# Altium footprint library IPC-7355 CQFP_Sq_127P_Side_M.PcbLib: 7 footprints
Each footprint in its own frame and in the unit in brackets; x right, y up, seen from the top. Pads: shape width x height; smd on the part's side, far side on the other; paste and mask are expansions set on the pad; w line width, h text height; cw(c..) or ccw(c..) is an arc to the next point about the centre after c.
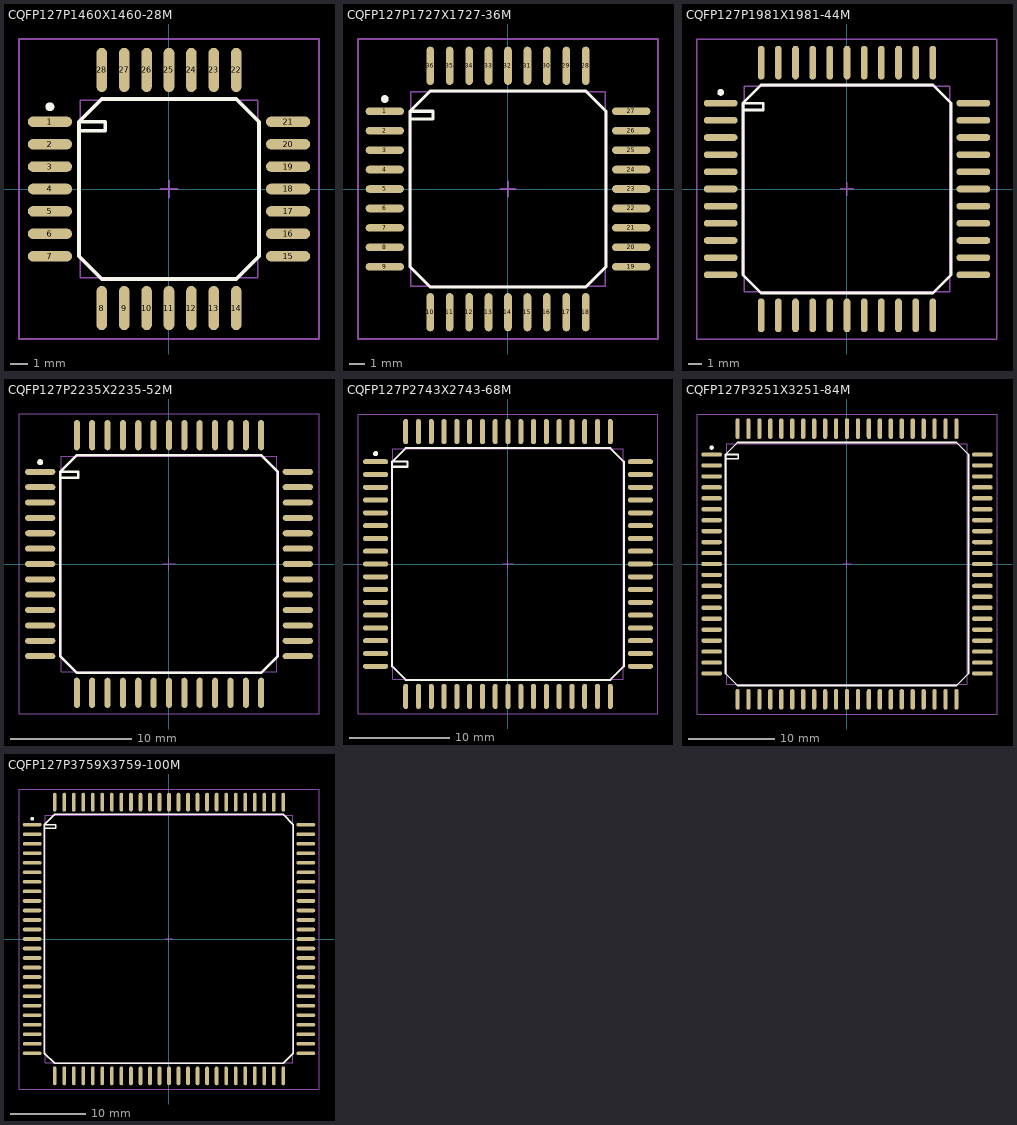
[diagram p0: the footprints below, top view; thin cyan lines are the x and y axes]

## CQFP127P1460X1460-28M [mm] "CQFP, 28-Leads, Body 10x10mm; Pitch 1.27mm, Gullwing Leadform, IPC Low Density"
height 2.3
pads (28):
  oval 2.5x0.6 smd: 1(-6.75,3.81) 2(-6.75,2.54) 3(-6.75,1.27) 4(-6.75,0) 5(-6.75,-1.27) 6(-6.75,-2.54) 7(-6.75,-3.81) 15(6.75,-3.81) 16(6.75,-2.54) 17(6.75,-1.27) 18(6.75,0) 19(6.75,1.27) 20(6.75,2.54) 21(6.75,3.81)
  oval 0.6x2.5 smd: 8(-3.81,-6.75) 9(-2.54,-6.75) 10(-1.27,-6.75) 11(0,-6.75) 12(1.27,-6.75) 13(2.54,-6.75) 14(3.81,-6.75) 22(3.81,6.75) 23(2.54,6.75) 24(1.27,6.75) 25(0,6.75) 26(-1.27,6.75) 27(-2.54,6.75) 28(-3.81,6.75)
Top Overlay:
  circle w0.25: c-6.75,4.66 r0.125
  lines w0.2: -5.1,3.31 -3.6,3.31 -3.6,3.81 -5.1,3.81 ; -5.1,3.81 -3.81,5.1 3.81,5.1 5.1,3.81 5.1,-3.81 3.81,-5.1 -3.81,-5.1 -5.1,-3.81 -5.1,3.81
Mechanical 13:
  lines w0.1: -5.025,-5.025 5.025,-5.025 5.025,5.025 -5.025,5.025 -5.025,-5.025
Mechanical 15:
  lines w0.1: -0.5,0 0.5,0 ; 0,-0.5 0,0.5 ; -8.5,-8.5 8.5,-8.5 8.5,8.5 -8.5,8.5 -8.5,-8.5
3D body: height 2.3, standoff 0, extent -5.025,-5.025 5.025,5.025

## CQFP127P1727X1727-36M [mm] "CQFP, 36-Leads, Body 12x12mm; Pitch 1.27mm, Gullwing Leadform, IPC Low Density"
height 5
pads (36):
  oval 2.5x0.5 smd: 1(-8.05,5.08) 2(-8.05,3.81) 3(-8.05,2.54) 4(-8.05,1.27) 5(-8.05,0) 6(-8.05,-1.27) 7(-8.05,-2.54) 8(-8.05,-3.81) 9(-8.05,-5.08) 19(8.05,-5.08) 20(8.05,-3.81) 21(8.05,-2.54) 22(8.05,-1.27) 23(8.05,0) 24(8.05,1.27) 25(8.05,2.54) 26(8.05,3.81) 27(8.05,5.08)
  oval 0.5x2.5 smd: 10(-5.08,-8.05) 11(-3.81,-8.05) 12(-2.54,-8.05) 13(-1.27,-8.05) 14(0,-8.05) 15(1.27,-8.05) 16(2.54,-8.05) 17(3.81,-8.05) 18(5.08,-8.05) 28(5.08,8.05) 29(3.81,8.05) 30(2.54,8.05) 31(1.27,8.05) 32(0,8.05) 33(-1.27,8.05) 34(-2.54,8.05) 35(-3.81,8.05) 36(-5.08,8.05)
Top Overlay:
  circle w0.25: c-8.05,5.88 r0.125
  lines w0.2: -6.4,4.58 -4.9,4.58 -4.9,5.08 -6.4,5.08 ; -6.4,5.08 -5.08,6.4 5.08,6.4 6.4,5.08 6.4,-5.08 5.08,-6.4 -5.08,-6.4 -6.4,-5.08 -6.4,5.08
Mechanical 13:
  lines w0.1: -6.35,-6.35 6.35,-6.35 6.35,6.35 -6.35,6.35 -6.35,-6.35
Mechanical 15:
  lines w0.1: -0.5,0 0.5,0 ; 0,-0.5 0,0.5 ; -9.8,-9.8 9.8,-9.8 9.8,9.8 -9.8,9.8 -9.8,-9.8
3D body: height 5, standoff 0, extent -6.35,-6.35 6.35,6.35

## CQFP127P1981X1981-44M [mm] "CQFP, 44-Leads, Body 15x15mm; Pitch 1.27mm, Gullwing Leadform, IPC Low Density"
height 5
pads (44):
  oval 2.5x0.5 smd: 1(-9.35,6.35) 2(-9.35,5.08) 3(-9.35,3.81) 4(-9.35,2.54) 5(-9.35,1.27) 6(-9.35,0) 7(-9.35,-1.27) 8(-9.35,-2.54) 9(-9.35,-3.81) 10(-9.35,-5.08) 11(-9.35,-6.35) 23(9.35,-6.35) 24(9.35,-5.08) 25(9.35,-3.81) 26(9.35,-2.54) 27(9.35,-1.27) 28(9.35,0) 29(9.35,1.27) 30(9.35,2.54) 31(9.35,3.81) 32(9.35,5.08) 33(9.35,6.35)
  oval 0.5x2.5 smd: 12(-6.35,-9.35) 13(-5.08,-9.35) 14(-3.81,-9.35) 15(-2.54,-9.35) 16(-1.27,-9.35) 17(0,-9.35) 18(1.27,-9.35) 19(2.54,-9.35) 20(3.81,-9.35) 21(5.08,-9.35) 22(6.35,-9.35) 34(6.35,9.35) 35(5.08,9.35) 36(3.81,9.35) 37(2.54,9.35) 38(1.27,9.35) 39(0,9.35) 40(-1.27,9.35) 41(-2.54,9.35) 42(-3.81,9.35) 43(-5.08,9.35) 44(-6.35,9.35)
Top Overlay:
  circle w0.25: c-9.35,7.15 r0.125
  lines w0.2: -7.7,5.85 -6.2,5.85 -6.2,6.35 -7.7,6.35 ; -7.7,6.35 -6.35,7.7 6.35,7.7 7.7,6.35 7.7,-6.35 6.35,-7.7 -6.35,-7.7 -7.7,-6.35 -7.7,6.35
Mechanical 13:
  lines w0.1: -7.62,-7.62 7.62,-7.62 7.62,7.62 -7.62,7.62 -7.62,-7.62
Mechanical 15:
  lines w0.1: -0.5,0 0.5,0 ; 0,-0.5 0,0.5 ; -11.1,-11.1 11.1,-11.1 11.1,11.1 -11.1,11.1 -11.1,-11.1
3D body: height 5, standoff 0, extent -7.62,-7.62 7.62,7.62

## CQFP127P2235X2235-52M [mm] "CQFP, 52-Leads, Body 17x17mm; Pitch 1.27mm, Gullwing Leadform, IPC Low Density"
height 5
pads (52):
  oval 2.5x0.5 smd: 1(-10.65,7.62) 2(-10.65,6.35) 3(-10.65,5.08) 4(-10.65,3.81) 5(-10.65,2.54) 6(-10.65,1.27) 7(-10.65,0) 8(-10.65,-1.27) 9(-10.65,-2.54) 10(-10.65,-3.81) 11(-10.65,-5.08) 12(-10.65,-6.35) 13(-10.65,-7.62) 27(10.65,-7.62) 28(10.65,-6.35) 29(10.65,-5.08) 30(10.65,-3.81) 31(10.65,-2.54) 32(10.65,-1.27) 33(10.65,0) 34(10.65,1.27) 35(10.65,2.54) 36(10.65,3.81) 37(10.65,5.08) 38(10.65,6.35) 39(10.65,7.62)
  oval 0.5x2.5 smd: 14(-7.62,-10.65) 15(-6.35,-10.65) 16(-5.08,-10.65) 17(-3.81,-10.65) 18(-2.54,-10.65) 19(-1.27,-10.65) 20(0,-10.65) 21(1.27,-10.65) 22(2.54,-10.65) 23(3.81,-10.65) 24(5.08,-10.65) 25(6.35,-10.65) 26(7.62,-10.65) 40(7.62,10.65) 41(6.35,10.65) 42(5.08,10.65) 43(3.81,10.65) 44(2.54,10.65) 45(1.27,10.65) 46(0,10.65) 47(-1.27,10.65) 48(-2.54,10.65) 49(-3.81,10.65) 50(-5.08,10.65) 51(-6.35,10.65) 52(-7.62,10.65)
Top Overlay:
  circle w0.25: c-10.65,8.42 r0.125
  lines w0.2: -9,7.12 -7.5,7.12 -7.5,7.62 -9,7.62 ; -9,7.62 -7.62,9 7.62,9 9,7.62 9,-7.62 7.62,-9 -7.62,-9 -9,-7.62 -9,7.62
Mechanical 13:
  lines w0.1: -8.89,-8.89 8.89,-8.89 8.89,8.89 -8.89,8.89 -8.89,-8.89
Mechanical 15:
  lines w0.1: -0.5,0 0.5,0 ; 0,-0.5 0,0.5 ; -12.4,-12.4 12.4,-12.4 12.4,12.4 -12.4,12.4 -12.4,-12.4
3D body: height 5, standoff 0, extent -8.89,-8.89 8.89,8.89

## CQFP127P2743X2743-68M [mm] "CQFP, 68-Leads, Body 22x22mm; Pitch 1.27mm, Gullwing Leadform, IPC Low Density"
height 5
pads (68):
  oval 2.5x0.5 smd: 1(-13.15,10.16) 2(-13.15,8.89) 3(-13.15,7.62) 4(-13.15,6.35) 5(-13.15,5.08) 6(-13.15,3.81) 7(-13.15,2.54) 8(-13.15,1.27) 9(-13.15,0) 10(-13.15,-1.27) 11(-13.15,-2.54) 12(-13.15,-3.81) 13(-13.15,-5.08) 14(-13.15,-6.35) 15(-13.15,-7.62) 16(-13.15,-8.89) 17(-13.15,-10.16) 35(13.15,-10.16) 36(13.15,-8.89) 37(13.15,-7.62) 38(13.15,-6.35) 39(13.15,-5.08) 40(13.15,-3.81) 41(13.15,-2.54) 42(13.15,-1.27) 43(13.15,0) 44(13.15,1.27) 45(13.15,2.54) 46(13.15,3.81) 47(13.15,5.08) 48(13.15,6.35) 49(13.15,7.62) 50(13.15,8.89) 51(13.15,10.16)
  oval 0.5x2.5 smd: 18(-10.16,-13.15) 19(-8.89,-13.15) 20(-7.62,-13.15) 21(-6.35,-13.15) 22(-5.08,-13.15) 23(-3.81,-13.15) 24(-2.54,-13.15) 25(-1.27,-13.15) 26(0,-13.15) 27(1.27,-13.15) 28(2.54,-13.15) 29(3.81,-13.15) 30(5.08,-13.15) 31(6.35,-13.15) 32(7.62,-13.15) 33(8.89,-13.15) 34(10.16,-13.15) 52(10.16,13.15) 53(8.89,13.15) 54(7.62,13.15) 55(6.35,13.15) 56(5.08,13.15) 57(3.81,13.15) 58(2.54,13.15) 59(1.27,13.15) 60(0,13.15) 61(-1.27,13.15) 62(-2.54,13.15) 63(-3.81,13.15) 64(-5.08,13.15) 65(-6.35,13.15) 66(-7.62,13.15) 67(-8.89,13.15) 68(-10.16,13.15)
Top Overlay:
  circle w0.25: c-13.15,10.96 r0.125
  lines w0.2: -11.5,9.66 -10,9.66 -10,10.16 -11.5,10.16 ; -11.5,10.16 -10.16,11.5 10.16,11.5 11.5,10.16 11.5,-10.16 10.16,-11.5 -10.16,-11.5 -11.5,-10.16 -11.5,10.16
Mechanical 13:
  lines w0.1: -11.43,-11.43 11.43,-11.43 11.43,11.43 -11.43,11.43 -11.43,-11.43
Mechanical 15:
  lines w0.1: -0.5,0 0.5,0 ; 0,-0.5 0,0.5 ; -14.9,-14.9 14.9,-14.9 14.9,14.9 -14.9,14.9 -14.9,-14.9
3D body: height 5, standoff 0, extent -11.43,-11.43 11.43,11.43

## CQFP127P3251X3251-84M [mm] "CQFP, 84-Leads, Body 27x27mm; Pitch 1.27mm, Gullwing Leadform, IPC Low Density"
height 5
pads (84):
  oval 2.4x0.5 smd: 1(-15.7,12.7) 2(-15.7,11.43) 3(-15.7,10.16) 4(-15.7,8.89) 5(-15.7,7.62) 6(-15.7,6.35) 7(-15.7,5.08) 8(-15.7,3.81) 9(-15.7,2.54) 10(-15.7,1.27) 11(-15.7,0) 12(-15.7,-1.27) 13(-15.7,-2.54) 14(-15.7,-3.81) 15(-15.7,-5.08) 16(-15.7,-6.35) 17(-15.7,-7.62) 18(-15.7,-8.89) 19(-15.7,-10.16) 20(-15.7,-11.43) 21(-15.7,-12.7) 43(15.7,-12.7) 44(15.7,-11.43) 45(15.7,-10.16) 46(15.7,-8.89) 47(15.7,-7.62) 48(15.7,-6.35) 49(15.7,-5.08) 50(15.7,-3.81) 51(15.7,-2.54) 52(15.7,-1.27) 53(15.7,0) 54(15.7,1.27) 55(15.7,2.54) 56(15.7,3.81) 57(15.7,5.08) 58(15.7,6.35) 59(15.7,7.62) 60(15.7,8.89) 61(15.7,10.16) 62(15.7,11.43) 63(15.7,12.7)
  oval 0.5x2.4 smd: 22(-12.7,-15.7) 23(-11.43,-15.7) 24(-10.16,-15.7) 25(-8.89,-15.7) 26(-7.62,-15.7) 27(-6.35,-15.7) 28(-5.08,-15.7) 29(-3.81,-15.7) 30(-2.54,-15.7) 31(-1.27,-15.7) 32(0,-15.7) 33(1.27,-15.7) 34(2.54,-15.7) 35(3.81,-15.7) 36(5.08,-15.7) 37(6.35,-15.7) 38(7.62,-15.7) 39(8.89,-15.7) 40(10.16,-15.7) 41(11.43,-15.7) 42(12.7,-15.7) 64(12.7,15.7) 65(11.43,15.7) 66(10.16,15.7) 67(8.89,15.7) 68(7.62,15.7) 69(6.35,15.7) 70(5.08,15.7) 71(3.81,15.7) 72(2.54,15.7) 73(1.27,15.7) 74(0,15.7) 75(-1.27,15.7) 76(-2.54,15.7) 77(-3.81,15.7) 78(-5.08,15.7) 79(-6.35,15.7) 80(-7.62,15.7) 81(-8.89,15.7) 82(-10.16,15.7) 83(-11.43,15.7) 84(-12.7,15.7)
Top Overlay:
  circle w0.25: c-15.7,13.5 r0.125
  lines w0.2: -14.1,12.2 -12.6,12.2 -12.6,12.7 -14.1,12.7 ; -14.1,12.7 -12.7,14.1 12.7,14.1 14.1,12.7 14.1,-12.7 12.7,-14.1 -12.7,-14.1 -14.1,-12.7 -14.1,12.7
Mechanical 13:
  lines w0.1: -13.97,-13.97 13.97,-13.97 13.97,13.97 -13.97,13.97 -13.97,-13.97
Mechanical 15:
  lines w0.1: -0.5,0 0.5,0 ; 0,-0.5 0,0.5 ; -17.4,-17.4 17.4,-17.4 17.4,17.4 -17.4,17.4 -17.4,-17.4
3D body: height 5, standoff 0, extent -13.97,-13.97 13.97,13.97

## CQFP127P3759X3759-100M [mm] "CQFP, 100-Leads, Body 33x33mm; Pitch 1.27mm, Gullwing Leadform, IPC Low Density"
height 5
pads (100):
  oval 2.5x0.5 smd: 1(-18.25,15.24) 2(-18.25,13.97) 3(-18.25,12.7) 4(-18.25,11.43) 5(-18.25,10.16) 6(-18.25,8.89) 7(-18.25,7.62) 8(-18.25,6.35) 9(-18.25,5.08) 10(-18.25,3.81) 11(-18.25,2.54) 12(-18.25,1.27) 13(-18.25,0) 14(-18.25,-1.27) 15(-18.25,-2.54) 16(-18.25,-3.81) 17(-18.25,-5.08) 18(-18.25,-6.35) 19(-18.25,-7.62) 20(-18.25,-8.89) 21(-18.25,-10.16) 22(-18.25,-11.43) 23(-18.25,-12.7) 24(-18.25,-13.97) 25(-18.25,-15.24) 51(18.25,-15.24) 52(18.25,-13.97) 53(18.25,-12.7) 54(18.25,-11.43) 55(18.25,-10.16) 56(18.25,-8.89) 57(18.25,-7.62) 58(18.25,-6.35) 59(18.25,-5.08) 60(18.25,-3.81) 61(18.25,-2.54) 62(18.25,-1.27) 63(18.25,0) 64(18.25,1.27) 65(18.25,2.54) 66(18.25,3.81) 67(18.25,5.08) 68(18.25,6.35) 69(18.25,7.62) 70(18.25,8.89) 71(18.25,10.16) 72(18.25,11.43) 73(18.25,12.7) 74(18.25,13.97) 75(18.25,15.24)
  oval 0.5x2.5 smd: 26(-15.24,-18.25) 27(-13.97,-18.25) 28(-12.7,-18.25) 29(-11.43,-18.25) 30(-10.16,-18.25) 31(-8.89,-18.25) 32(-7.62,-18.25) 33(-6.35,-18.25) 34(-5.08,-18.25) 35(-3.81,-18.25) 36(-2.54,-18.25) 37(-1.27,-18.25) 38(0,-18.25) 39(1.27,-18.25) 40(2.54,-18.25) 41(3.81,-18.25) 42(5.08,-18.25) 43(6.35,-18.25) 44(7.62,-18.25) 45(8.89,-18.25) 46(10.16,-18.25) 47(11.43,-18.25) 48(12.7,-18.25) 49(13.97,-18.25) 50(15.24,-18.25) 76(15.24,18.25) 77(13.97,18.25) 78(12.7,18.25) 79(11.43,18.25) 80(10.16,18.25) 81(8.89,18.25) 82(7.62,18.25) 83(6.35,18.25) 84(5.08,18.25) 85(3.81,18.25) 86(2.54,18.25) 87(1.27,18.25) 88(0,18.25) 89(-1.27,18.25) 90(-2.54,18.25) 91(-3.81,18.25) 92(-5.08,18.25) 93(-6.35,18.25) 94(-7.62,18.25) 95(-8.89,18.25) 96(-10.16,18.25) 97(-11.43,18.25) 98(-12.7,18.25) 99(-13.97,18.25) 100(-15.24,18.25)
Top Overlay:
  circle w0.25: c-18.25,16.04 r0.125
  lines w0.2: -16.6,14.74 -15.1,14.74 -15.1,15.24 -16.6,15.24 ; -16.6,15.24 -15.24,16.6 15.24,16.6 16.6,15.24 16.6,-15.24 15.24,-16.6 -15.24,-16.6 -16.6,-15.24 -16.6,15.24
Mechanical 13:
  lines w0.1: -16.51,-16.51 16.51,-16.51 16.51,16.51 -16.51,16.51 -16.51,-16.51
Mechanical 15:
  lines w0.1: -0.5,0 0.5,0 ; 0,-0.5 0,0.5 ; -20,-20 20,-20 20,20 -20,20 -20,-20
3D body: height 5, standoff 0, extent -16.51,-16.51 16.51,16.51